# EAGLE library part CAN_TRANSCEIVER (library everykey)
CAN transceiver with separate voltages, such as NXP TJF1051T/3 or Freescale MC33901WEF (pin compatible)
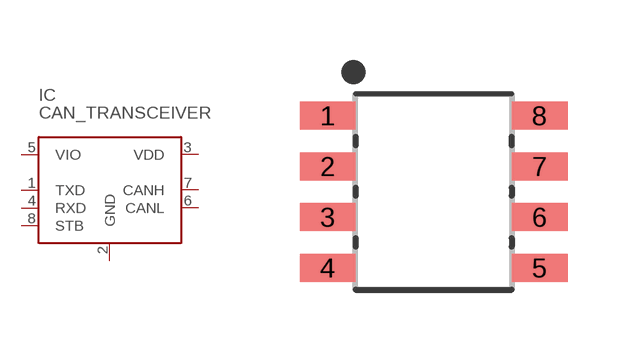
[diagram p70: symbol with the pads of SOIC8-150MIL; footprint SOIC8-150MIL]

Designator prefix IC

## CAN_TRANSCEIVER-SOIC8  [SOIC8-150MIL]
1  TXD  in
2  GND  pwr
3  VDD  pwr
4  RXD  out
5  VIO  pwr
6  CANL
7  CANH
8  STB  in

## Footprint SOIC8-150MIL (pad centres in mm)
SOIC-8 package for 150mil (3.8-4mm) wide body.
smd 1.4 x 0.7: 1 -2.65,1.905; 2 -2.65,0.635; 3 -2.65,-0.635; 4 -2.65,-1.905; 5 2.65,-1.905; 6 2.65,-0.635; 7 2.65,0.635; 8 2.65,1.905